# Altium schematic symbol library Type_C.SchLib: 4 symbols
Pins are listed as number, name and electrical type; pins without a type are passive.

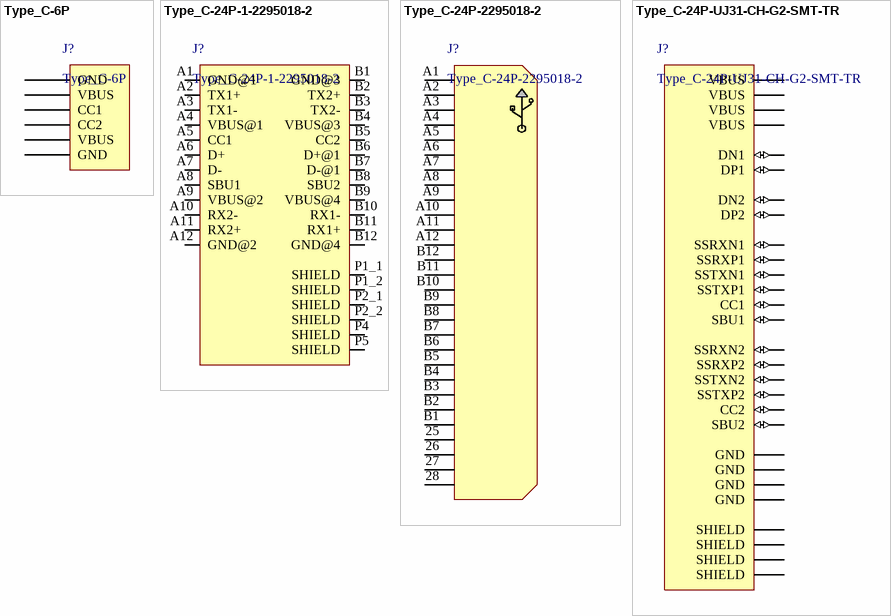
[diagram p0: symbols Type_C-6P to Type_C-24P-UJ31-CH-G2-SMT-TR]

## Type_C-6P
designator J?
footprint Type-C-6P
pins: A5 CC1, A9 VBUS, A12 GND, B5 CC2, B9 VBUS, B12 GND

## Type_C-24P-1-2295018-2
designator J?
Conn USB Type C RCP 12 POS Solder RA SMD 12 Terminal 1 Port T/R
footprint Type_C-TE_1-2295018-2(Primary)
pins: A1 GND@1, A2 TX1+, A3 TX1-, A4 VBUS@1, A5 CC1, A6 D+, A7 D-, A8 SBU1, A9 VBUS@2, A10 RX2-, A11 RX2+, A12 GND@2, B1 GND@3, B2 TX2+, B3 TX2-, B4 VBUS@3, B5 CC2, B6 D+@1, B7 D-@1, B8 SBU2, B9 VBUS@4, B10 RX1-, B11 RX1+, B12 GND@4, P1_1 SHIELD, P1_2 SHIELD, P2_1 SHIELD, P2_2 SHIELD, P4 SHIELD, P5 SHIELD

## Type_C-24P-2295018-2
designator J?
SPLASH PROOF USB TYPE C REC, DUAL SMT
footprint Type_C-CONN24_USB229501
pins: 25, 26, 27, 28, A1, A2, A3, A4, A5, A6, A7, A8, A9, A10, A11, A12, B1 B12, B2 B11, B3 B10, B4 B9, B5 B8, B6 B7, B7 B6, B8 B5, B9 B4, B10 B3, B11 B2, B12 B1

## Type_C-24P-UJ31-CH-G2-SMT-TR
designator J?
UJ31 Series Single Port 24 Contact Horizontal SMT Shielded USB-C 3.1 Receptacle
footprint Type_C-UJ31-CH-G2-SMT-TR(Primary)
pins: A1 GND (power), A2 SSTXP1 (io), A3 SSTXN1 (io), A4 VBUS (power), A5 CC1 (io), A6 DP1 (io), A7 DN1 (io), A8 SBU1 (io), A9 VBUS (power), A10 SSRXN2 (io), A11 SSRXP2 (io), A12 GND (power), B1 GND (power), B2 SSTXP2 (io), B3 SSTXN2 (io), B4 VBUS (power), B5 CC2 (io), B6 DP2 (io), B7 DN2 (io), B8 SBU2 (io), B9 VBUS (power), B10 SSRXN1 (io), B11 SSRXP1 (io), B12 GND (power), SH1 SHIELD (power), SH2 SHIELD (power), SH3 SHIELD (power), SH4 SHIELD (power)